# EAGLE library part C-GRID-23 (library con-molex_sgq)
CONNECTOR wire to board 2.54 mm (0.100") pitch header
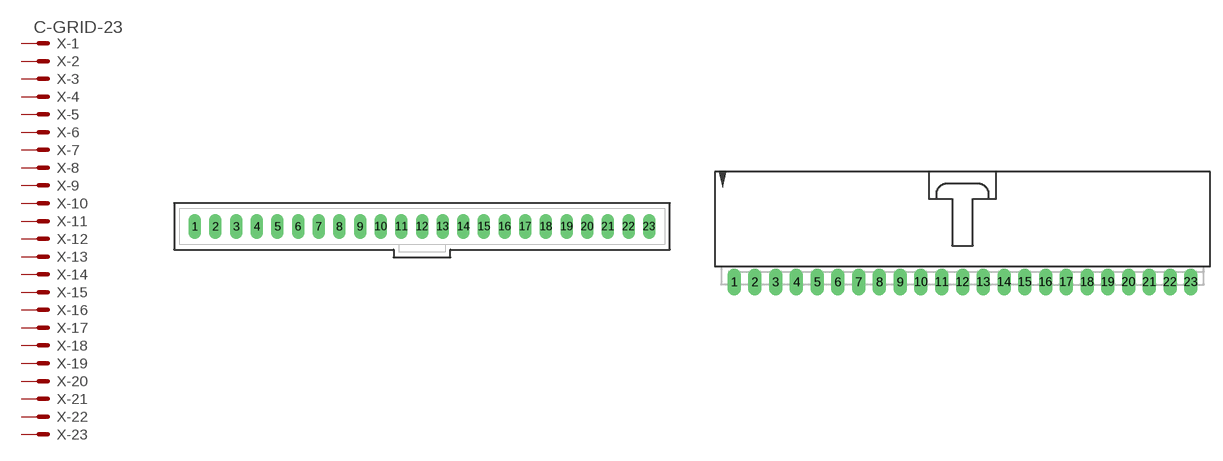
[diagram p87: symbol with the pads of 70543-23; footprints 70543-23, 70553-23]

Designator prefix X; gates -1=MV -2=M -3=M -4=M -5=M -6=M -7=M -8=M -9=M -10=M -11=M -12=M -13=M -14=M -15=M -16=M -17=M -18=M -19=M -20=M -21=M -22=M -23=M

## C-GRID-23-70543 (MF: MOLEX; OC_FARNELL: unknown; OC_NEWARK: unknown)  [70543-23]
1  -1:S  pas
2  -2:S  pas
3  -3:S  pas
4  -4:S  pas
5  -5:S  pas
6  -6:S  pas
7  -7:S  pas
8  -8:S  pas
9  -9:S  pas
10  -10:S  pas
11  -11:S  pas
12  -12:S  pas
13  -13:S  pas
14  -14:S  pas
15  -15:S  pas
16  -16:S  pas
17  -17:S  pas
18  -18:S  pas
19  -19:S  pas
20  -20:S  pas
21  -21:S  pas
22  -22:S  pas
23  -23:S  pas

## C-GRID-23-70553 (MF: MOLEX; OC_FARNELL: unknown; OC_NEWARK: unknown)  [70553-23]
Pads as for 70543-23

## Footprint 70543-23 (pad centres in mm)
2.54mm Pitch SL™ Header, Single Row, Vertical, 3.05mm Pocket, Shrouded, 24 Circuits, 0.38µm Gold (Au) Selective Plating, Tin (Sn) PC Tail Plating Datasheet <http://www.molex.com/pdm_docs/sd/705430023_sd.pdf>
drill 1.016 long: 1 -27.94,0; 2 -25.4,0; 3 -22.86,0; 4 -20.32,0; 5 -17.78,0; 6 -15.24,0; 7 -12.7,0; 8 -10.16,0; 9 -7.62,0; 10 -5.08,0; 11 -2.54,0; 12 0,0; 13 2.54,0; 14 5.08,0; 15 7.62,0; 16 10.16,0; 17 12.7,0; 18 15.24,0; 19 17.78,0; 20 20.32,0; 21 22.86,0; 22 25.4,0; 23 27.94,0

## Footprint 70553-23 (pad centres in mm)
2.54mm Pitch SL™ Header, Low Profile, Single Row, Right Angle, 3.05mm Pocket, Shrouded, 24 Circuits, 0.38µm Gold (Au) Selective Plating, Tin (Sn) PC Tail Plating Datasheet <http://www.molex.com/pdm_docs/sd/705530023_sd.pdf>
drill 1.092 long: 1 -27.94,-7.62; 2 -25.4,-7.62; 3 -22.86,-7.62; 4 -20.32,-7.62; 5 -17.78,-7.62; 6 -15.24,-7.62; 7 -12.7,-7.62; 8 -10.16,-7.62; 9 -7.62,-7.62; 10 -5.08,-7.62; 11 -2.54,-7.62; 12 0,-7.62; 13 2.54,-7.62; 14 5.08,-7.62; 15 7.62,-7.62; 16 10.16,-7.62; 17 12.7,-7.62; 18 15.24,-7.62; 19 17.78,-7.62; 20 20.32,-7.62; 21 22.86,-7.62; 22 25.4,-7.62; 23 27.94,-7.62